# Altium footprint library sod323.PcbLib: 1 footprints
Each footprint in its own frame and in the unit in brackets; x right, y up, seen from the top. Pads: shape width x height; smd on the part's side, far side on the other; paste and mask are expansions set on the pad; w line width, h text height; cw(c..) or ccw(c..) is an arc to the next point about the centre after c.
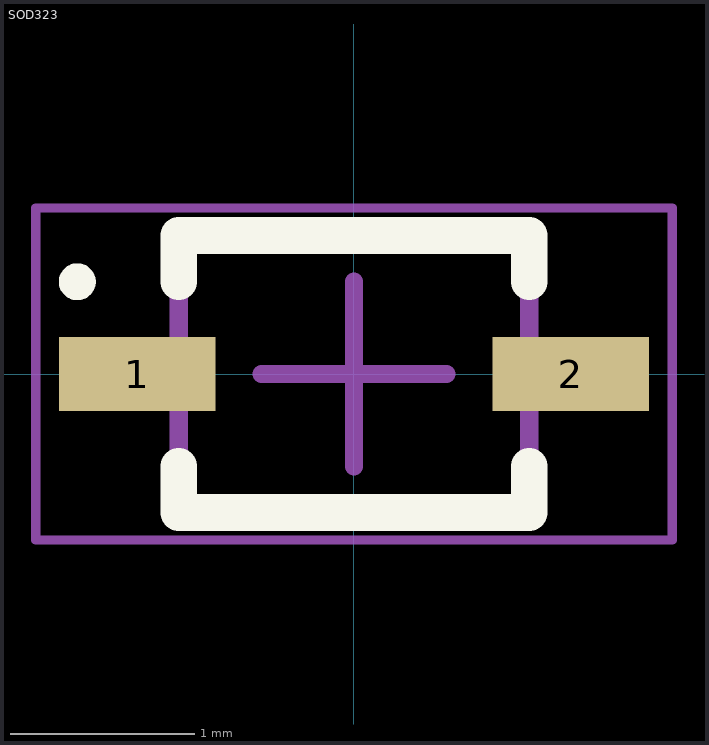
[diagram p0: the footprint, top view; thin cyan lines are the x and y axes]

## SOD323 [mm] "SODFL, 2-Leads, Body 1,30x2,57mm, IPC Medium Density"
height 1.14
pads (2):
  rect 0.85x0.4 smd: 1(-1.175,0) 2(1.175,0)
Top Overlay:
  circle w0.1: c-1.5,0.5 r0.05
  lines w0.2: -0.95,-0.5 -0.95,-0.75 0.95,-0.75 0.95,-0.5 ; -0.95,0.5 -0.95,0.75 0.95,0.75 0.95,0.5
Mechanical 7:
  text ".Comment" at 0.889,1.27 h1.2
Mechanical 9 (Mech9):
  text ".Designator" at -0.381,1.27 h1.2
Mechanical 11:
  lines w0.1: -0.95,-0.725 -0.95,0.725 0.95,0.725 0.95,-0.725 -0.95,-0.725
Mechanical 15:
  lines w0.05: -1.725,-0.9 -1.725,0.9 1.725,0.9 1.725,-0.9 -1.725,-0.9
  lines w0.1: -0.5,0 0.5,0 ; 0,-0.5 0,0.5
3D body "User Library-SOD323-1.STEP": height 1.1, standoff 0, extent -1.3,-0.675 1.3,0.675